# Altium footprint library CHS-01TA.PcbLib: 1 footprints
Each footprint in its own frame and in the unit in brackets; x right, y up, seen from the top. Pads: shape width x height; smd on the part's side, far side on the other; paste and mask are expansions set on the pad; w line width, h text height; cw(c..) or ccw(c..) is an arc to the next point about the centre after c.
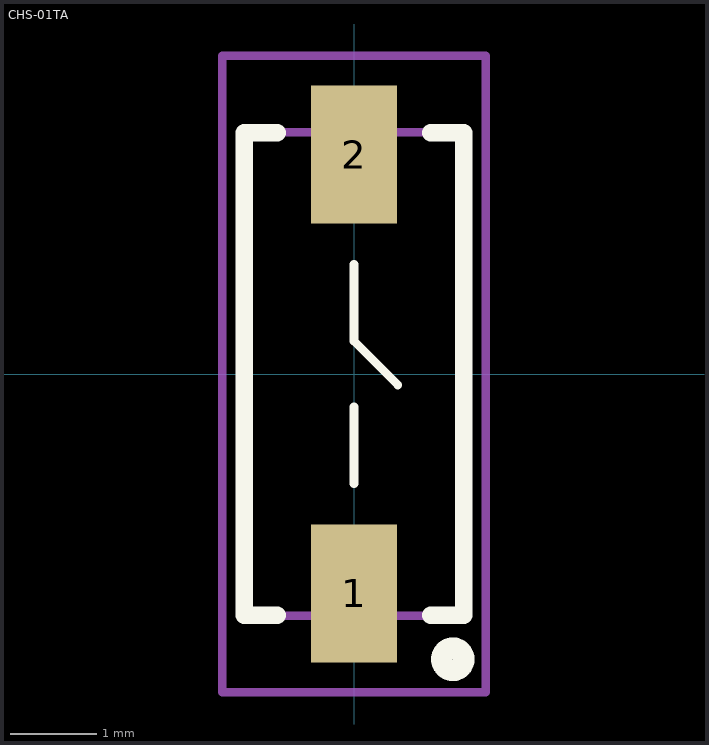
[diagram p0: the footprint, top view; thin cyan lines are the x and y axes]

## CHS-01TA [mm]
pads (2):
  rect 1x1.6 smd: 1(0,-2.54) 2(0,2.54)
Top Overlay:
  circle w0.25: c1.143,-3.302 r0.127
  lines w0.1: 0,-1.27 0,-0.381 ; 0,1.27 0,0.508 0,0.381 0.508,-0.127
  lines w0.2: -0.889,-2.794 -1.27,-2.794 -1.27,2.794 -0.889,2.794 ; 0.889,-2.794 1.27,-2.794 1.27,2.794 0.889,2.794
Mechanical 13:
  lines w0.1: -1.25,-2.8 1.25,-2.8 1.25,2.8 -1.25,2.8 -1.25,-2.8
Mechanical 15:
  lines w0.1: -1.524,-3.683 1.524,-3.683 1.524,3.683 -1.524,3.683 -1.524,-3.683
3D body "CHS-01TA.stp": height 2.52, standoff 0, extent -1.25,-2.8 1.25,2.8